# Altium footprint library Face_3Key1V0.PcbLib: 4 footprints
Each footprint in its own frame and in the unit in brackets; x right, y up, seen from the top. Pads: shape width x height; smd on the part's side, far side on the other; paste and mask are expansions set on the pad; w line width, h text height; cw(c..) or ccw(c..) is an arc to the next point about the centre after c.
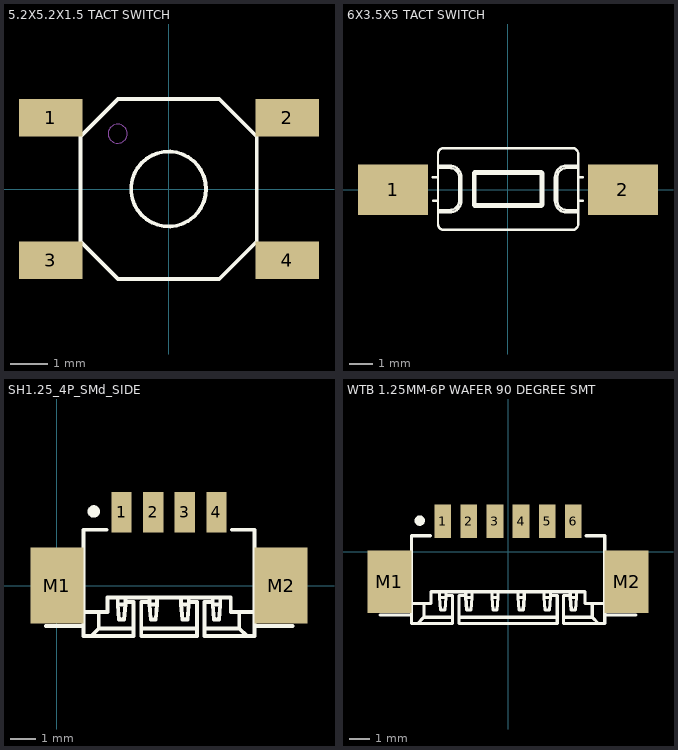
[diagram p0: the footprints below, top view; thin cyan lines are the x and y axes]

## 5.2X5.2X1.5 TACT SWITCH [mm]
pads (4):
  rect 1.7x1 smd: 1(-3.15,1.9) 2(3.15,1.9) 3(-3.15,-1.9) 4(3.15,-1.9)
Top Overlay:
  circle w0.1: c-0.011,0 r1
  lines w0.1: -2.361,-1.4 -2.361,1.4 -1.361,2.4 1.339,2.4 2.339,1.4 2.339,-1.4 1.339,-2.4 -1.361,-2.4 -2.361,-1.4
Mechanical 10:
  circle w0.013: c-1.368,1.475 r0.254
3D body "c-8-1437565-0-j-3d.stp": height 1.5, standoff 0, extent -3.301,-2.503 3.299,2.497

## 6X3.5X5 TACT SWITCH [mm]
pads (2):
  rect 3x2.16 smd: 1(-4.925,0) 2(4.925,0)
Top Overlay:
  lines w0.1: -3.217,0.523 -2.996,0.523 ; -3.199,-0.477 -2.996,-0.477 ; -2.996,-0.877 -2.495,-0.877 ; -2.996,0.924 -2.495,0.924 ; 3.007,-0.877 2.507,-0.877 ; 3.007,-0.477 3.205,-0.477 ; 3.007,0.523 3.21,0.523 ; 3.007,0.924 2.507,0.924 ; -2.996,-0.977 -2.996,-1.477 ccw(c-2.745,-1.477) -2.745,-1.728 2.757,-1.728 ccw(c2.757,-1.477) 3.007,-1.477 3.007,-0.977 ; -2.996,-0.977 -2.996,1.024 ; -2.996,-0.977 -2.495,-0.977 ; -2.996,1.024 -2.996,1.524 cw(c-2.745,1.524) -2.745,1.774 2.757,1.774 cw(c2.757,1.524) 3.007,1.524 3.007,1.024 ; -2.996,1.024 -2.495,1.024 ; -2.495,-0.977 ccw(c-2.495,-0.477) -1.995,-0.477 ; -2.495,-0.977 -2.495,-0.877 ; -2.495,-0.877 ccw(c-2.495,-0.477) -2.095,-0.477 ; -2.495,0.924 cw(c-2.495,0.523) -2.095,0.523 ; -2.495,0.924 -2.495,1.024 ; -2.495,1.024 cw(c-2.495,0.523) -1.995,0.523 ; -2.095,-0.477 -2.095,0.523 ; -2.095,-0.477 -1.995,-0.477 ; -2.095,0.523 -1.995,0.523 ; -1.995,-0.477 -1.995,0.523 ; -1.495,-0.637 ccw(c-1.395,-0.637) -1.395,-0.737 ; -1.495,-0.637 -1.495,0.684 ; -1.495,-0.637 1.507,-0.637 ; -1.495,0.684 cw(c-1.395,0.684) -1.395,0.784 ; -1.495,0.684 1.507,0.684 ; -1.395,-0.737 -1.395,0.784 ; -1.395,-0.737 1.407,-0.737 ; -1.395,0.784 1.407,0.784 ; 1.407,-0.737 ccw(c1.407,-0.637) 1.507,-0.637 ; 1.407,-0.737 1.407,0.784 ; 1.407,0.784 cw(c1.407,0.684) 1.507,0.684 ; 1.507,-0.637 1.507,0.684 ; 2.007,-0.477 ccw(c2.507,-0.477) 2.507,-0.977 ; 2.007,-0.477 2.007,0.523 ; 2.007,-0.477 2.107,-0.477 ; 2.007,0.523 cw(c2.507,0.523) 2.507,1.024 ; 2.007,0.523 2.107,0.523 ; 2.107,-0.477 ccw(c2.507,-0.477) 2.507,-0.877 ; 2.107,-0.477 2.107,0.523 ; 2.107,0.523 cw(c2.507,0.523) 2.507,0.924 ; 2.507,-0.977 3.007,-0.977 ; 2.507,-0.977 2.507,-0.877 ; 2.507,0.924 2.507,1.024 ; 2.507,1.024 3.007,1.024 ; 3.007,-0.977 3.007,1.024
3D body "User Library-TL3302BF180QC-1.STEP": height 5, standoff 0, extent -5.186,-1.728 5.214,1.772

## SH1.25_4P_SMd_SIDE [mm] "WTB 1.25MM WAFER 90 DEGREE SMT"
pads (6):
  rect 0.8x1.6 smd: 1(2.55,2.9) 2(3.8,2.9) 3(5.05,2.9) 4(6.3,2.9)
  rect 2.1x3 smd: M1(0,0) M2(8.85,0)
Top Overlay:
  circle w0.254: c1.453,2.929 r0.119
  lines w0.15: -0.447,-1.592 1.053,-1.592 ; 1.053,-1.042 1.993,-1.042 1.993,-0.472 6.863,-0.472 6.863,-1.042 7.803,-1.042 ; 1.353,-1.992 1.653,-1.692 ; 1.653,-1.042 1.653,-1.692 ; 1.953,2.208 1.053,2.208 1.053,-1.992 3.028,-1.992 3.028,-0.652 2.703,-0.652 ; 2.403,-0.472 2.403,-0.742 ; 2.703,-0.472 2.703,-0.742 ; 3.028,-1.692 1.653,-1.692 ; 3.328,-1.692 5.528,-1.692 ; 3.653,-0.652 3.328,-0.652 3.328,-1.992 5.528,-1.992 5.528,-0.652 5.203,-0.652 ; 3.653,-0.472 3.653,-0.742 ; 3.953,-0.472 3.953,-0.742 ; 4.903,-0.472 4.903,-0.742 ; 5.203,-0.472 5.203,-0.742 ; 5.828,-1.692 7.203,-1.692 ; 6.153,-0.652 5.828,-0.652 5.828,-1.992 7.803,-1.992 7.803,2.208 6.903,2.208 ; 6.153,-0.472 6.153,-0.742 ; 6.453,-0.472 6.453,-0.742 ; 7.203,-1.042 7.203,-1.692 ; 7.503,-1.992 7.203,-1.692 ; 7.803,-1.592 9.303,-1.592 ; 2.403,-0.742 2.703,-0.742 ; 2.403,-0.742 2.453,-1.342 2.653,-1.342 2.703,-0.742 ; 3.653,-0.742 3.953,-0.742 ; 3.653,-0.742 3.703,-1.342 3.903,-1.342 3.953,-0.742 ; 4.903,-0.742 4.953,-1.342 5.153,-1.342 5.203,-0.742 ; 4.903,-0.742 5.203,-0.742 ; 6.153,-0.742 6.453,-0.742 ; 6.153,-0.742 6.203,-1.342 6.403,-1.342 6.453,-0.742
3D body "1.25MM WAFER SMT RIGHT ANGLE, 4 POSITIONS, TIN PLATING.STEP": height 3.45, standoff -0.03, extent -0.635,-1.972 9.515,3.328

## WTB 1.25MM-6P WAFER 90 DEGREE SMT [mm]
pads (8):
  rect 0.8x1.6 smd: 1(-3.125,1.45) 2(-1.875,1.45) 3(-0.625,1.45) 4(0.625,1.45) 5(1.875,1.45) 6(3.125,1.45)
  rect 2.1x3 smd: M1(-5.675,-1.45) M2(5.675,-1.45)
Top Overlay:
  circle w0.254: c-4.222,1.479 r0.119
  lines w0.15: -6.122,-3.042 -4.622,-3.042 ; -4.622,-2.492 -3.682,-2.492 -3.682,-1.922 3.688,-1.922 3.688,-2.492 4.628,-2.492 ; -4.322,-3.442 -4.022,-3.142 ; -4.022,-2.492 -4.022,-3.142 ; -3.722,0.758 -4.622,0.758 -4.622,-3.442 -2.647,-3.442 -2.647,-2.102 -2.972,-2.102 ; -3.272,-1.922 -3.272,-2.192 ; -2.972,-1.922 -2.972,-2.192 ; -2.647,-3.142 -4.022,-3.142 ; -2.347,-3.142 2.351,-3.142 ; -2.022,-2.102 -2.347,-2.102 -2.347,-3.442 2.353,-3.442 2.353,-2.102 2.028,-2.102 ; -2.022,-1.922 -2.022,-2.192 ; -1.722,-1.922 -1.722,-2.192 ; -0.772,-1.922 -0.772,-2.192 ; -0.472,-1.922 -0.472,-2.192 ; 0.478,-1.922 0.478,-2.192 ; 0.778,-1.922 0.778,-2.192 ; 1.728,-1.922 1.728,-2.192 ; 2.028,-1.922 2.028,-2.192 ; 2.653,-3.142 4.028,-3.142 ; 2.978,-2.102 2.653,-2.102 2.653,-3.442 4.628,-3.442 4.628,0.758 3.728,0.758 ; 2.978,-1.922 2.978,-2.192 ; 3.278,-1.922 3.278,-2.192 ; 4.028,-2.492 4.028,-3.142 ; 4.328,-3.442 4.028,-3.142 ; 4.628,-3.042 6.128,-3.042 ; -3.272,-2.192 -2.972,-2.192 ; -3.272,-2.192 -3.222,-2.792 -3.022,-2.792 -2.972,-2.192 ; -2.022,-2.192 -1.722,-2.192 ; -2.022,-2.192 -1.972,-2.792 -1.772,-2.792 -1.722,-2.192 ; -0.772,-2.192 -0.722,-2.792 -0.522,-2.792 -0.472,-2.192 ; -0.772,-2.192 -0.472,-2.192 ; 0.478,-2.192 0.778,-2.192 ; 0.478,-2.192 0.528,-2.792 0.728,-2.792 0.778,-2.192 ; 1.728,-2.192 2.028,-2.192 ; 1.728,-2.192 1.778,-2.792 1.978,-2.792 2.028,-2.192 ; 2.978,-2.192 3.028,-2.792 3.228,-2.792 3.278,-2.192 ; 2.978,-2.192 3.278,-2.192
3D body "1.25mm 6P.STEP": height 3.45, standoff -0.03, extent -6.325,-3.497 6.325,1.803